# EAGLE library part BMA423_BMA423 (library InkTime_v5)
Accelerometers Triaxial low-g 12bit Acceleration Sensor Source: Datasheet <https://www.mouser.com/datasheet/2/783/BST-BMA423-DS000-1509600.pdf>
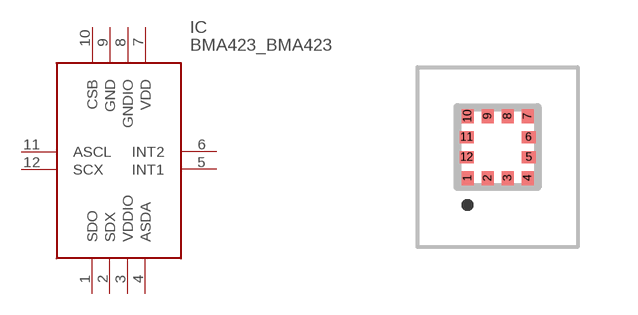
[diagram p8: symbol with the pads of BMA423_BMA423; footprint BMA423_BMA423]

Designator prefix IC

## BMA423_BMA423  [BMA423_BMA423]
1  SDO
2  SDX
3  VDDIO
4  ASDA
5  INT1
6  INT2
7  VDD
8  GNDIO
9  GND
10  CSB
11  ASCL
12  SCX

## Footprint BMA423_BMA423 (pad centres in mm)
BMA423-1
smd 0.3 x 0.35: 1 -0.75,-0.775; 2 -0.25,-0.775; 3 0.25,-0.775; 4 0.75,-0.775; 7 0.75,0.775; 8 0.25,0.775; 9 -0.25,0.775; 10 -0.75,0.775
smd 0.35 x 0.3: 5 0.775,-0.25; 6 0.775,0.25; 11 -0.775,0.25; 12 -0.775,-0.25